# Altium footprint library Parts.PcbLib: 2 footprints
Each footprint in its own frame and in the unit in brackets; x right, y up, seen from the top. Pads: shape width x height; smd on the part's side, far side on the other; paste and mask are expansions set on the pad; w line width, h text height; cw(c..) or ccw(c..) is an arc to the next point about the centre after c.
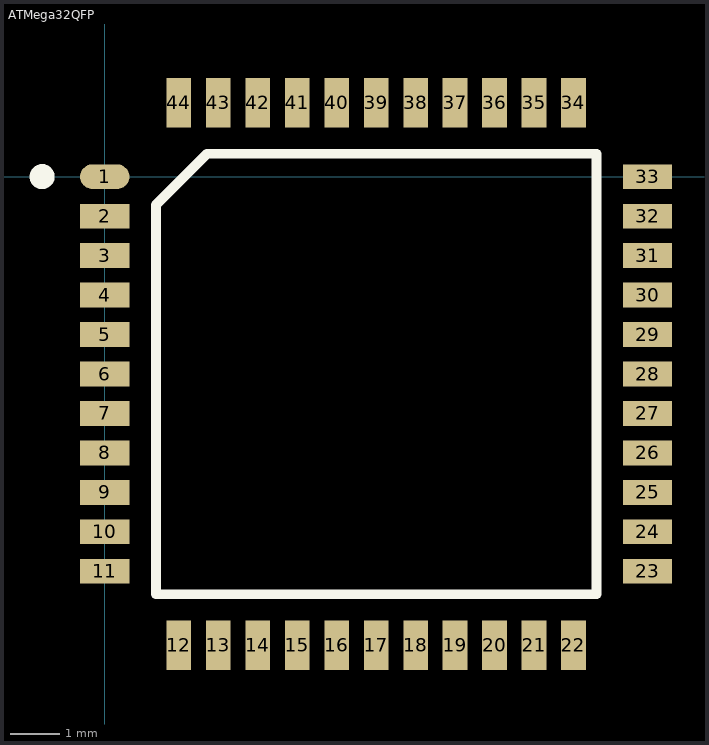
[diagram p0: the footprints below, top view; thin cyan lines are the x and y axes]

## ATMega32QFP [mm]
pads (44):
  oval 1x0.5 smd: 1(0,0)
  rect 1x0.5 smd: 2(0,-0.8) 3(0,-1.6) 4(0,-2.4) 5(0,-3.2) 6(0,-4) 7(0,-4.8) 8(0,-5.6) 9(0,-6.4) 10(0,-7.2) 11(0,-8) 23(11,-8) 24(11,-7.2) 25(11,-6.4) 26(11,-5.6) 27(11,-4.8) 28(11,-4) 29(11,-3.2) 30(11,-2.4) 31(11,-1.6) 32(11,-0.8) 33(11,0)
  rect 0.5x1 smd: 12(1.5,-9.5) 13(2.3,-9.5) 14(3.1,-9.5) 15(3.9,-9.5) 16(4.7,-9.5) 17(5.5,-9.5) 18(6.3,-9.5) 19(7.1,-9.5) 20(7.9,-9.5) 21(8.7,-9.5) 22(9.5,-9.5) 34(9.5,1.5) 35(8.7,1.5) 36(7.9,1.5) 37(7.1,1.5) 38(6.3,1.5) 39(5.5,1.5) 40(4.7,1.5) 41(3.9,1.5) 42(3.1,1.5) 43(2.3,1.5) 44(1.5,1.5)
Top Overlay:
  circle w0.254: c-1.27,0 r0.127
  lines w0.2: 1.035,-8.465 1.035,-0.57 2.07,0.465 9.965,0.465 9.965,-8.465 1.035,-8.465

## PCBComponent_1 [mm]